# Altium footprint library Transistor.PcbLib: 7 footprints
Each footprint in its own frame and in the unit in brackets; x right, y up, seen from the top. Pads: shape width x height; smd on the part's side, far side on the other; paste and mask are expansions set on the pad; w line width, h text height; cw(c..) or ccw(c..) is an arc to the next point about the centre after c.
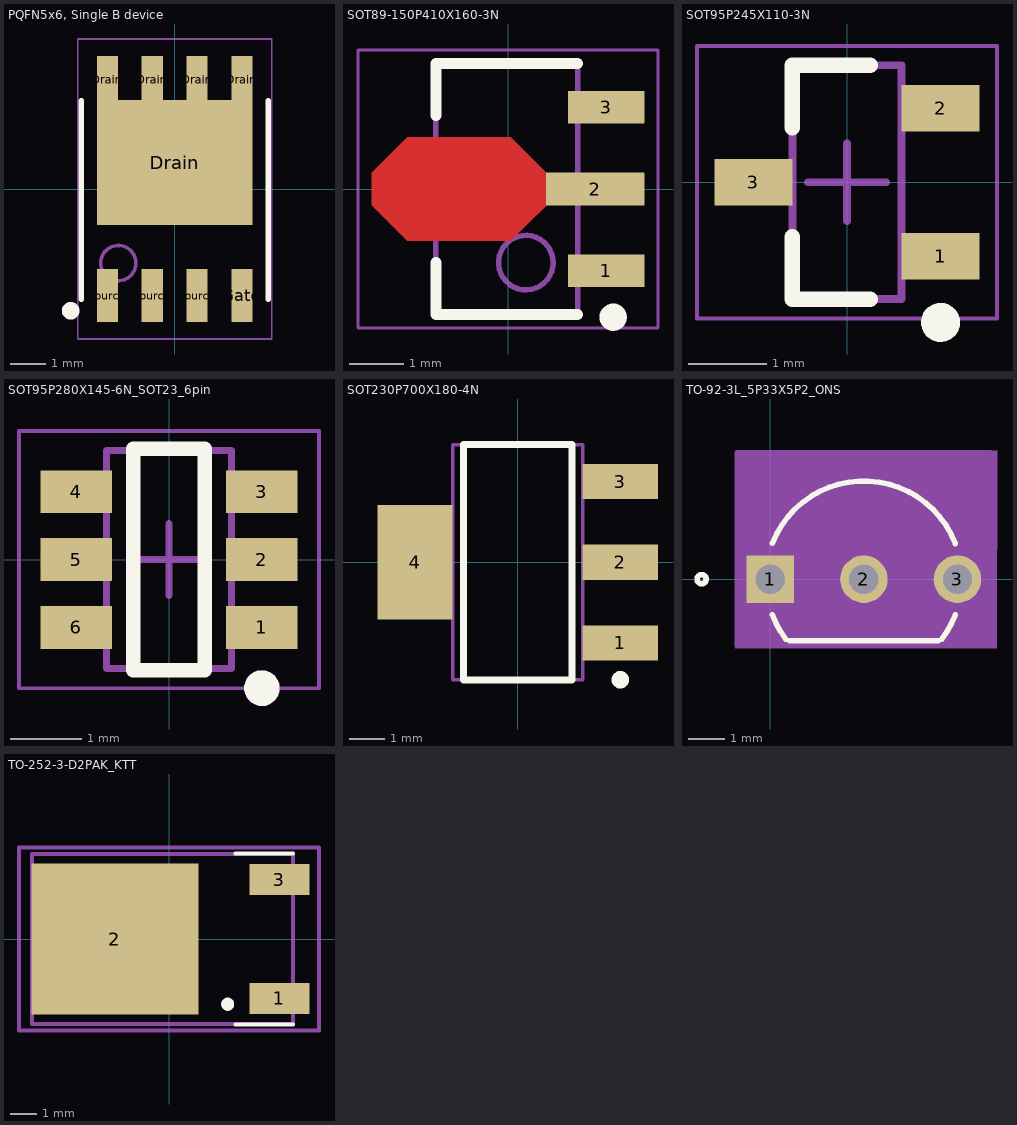
[diagram p0: the footprints below, top view; thin cyan lines are the x and y axes]

## PQFN5x6, Single B device [mm] "PQFN, 8-Leads, Body 6.00x5.00mm, Pitch 1.27mm, Thermal Pad 0.00x2.20mm, IPC Medium Density"
height 0.9
pads (9):
  rect 0.6x1.35 smd: Drain(-1.905,3.095) Drain(-0.635,3.095) Drain(0.635,3.095) Drain(1.905,3.095)
  rect 4.41x3.545 smd: Drain(0,0.75)
  rect 0.6x1.5 smd: Gate(1.905,-3.02) Source(-1.905,-3.02) Source(-0.635,-3.02) Source(0.635,-3.02)
Top Overlay:
  circle w0.25: c-2.95,-3.45 r0.125
  lines w0.152: -2.65,-3.125 -2.65,2.5 ; 2.65,-3.125 2.65,2.5
Mechanical 13:
  circle w0.1: c-1.6,-2.1 r0.5
Mechanical 15:
  lines w0.05: -2.75,-4.25 2.75,-4.25 ; -2.75,4.25 2.75,4.25
  lines w0.051: -2.75,-4.25 -2.75,0 -2.75,4.25 ; 2.75,-4.25 2.75,0 2.75,4.25
  lines w0.1: -0.5,0 0.5,0 ; 0,-0.5 0,0.5
3D body "User Library-PQFN8_5X6.step": height 1, standoff 0, extent -2.55,-3.1 2.55,3.1

## SOT89-150P410X160-3N [mm] "SOT89, 3-Leads, Body 4.50x2.45mm, Pitch 1.50mm, Lead Span 4.1mm, IPC Medium Density"
height 1.6
pads (3):
  rect 1.4x0.6 smd: 1(1.8,-1.5) 3(1.8,1.5)
  rect 1.8x0.6 smd: 2(1.6,0)
Top Layer:
  region: 1,0 0.05,-0.95 -1.85,-0.95 -2.5,-0.3 -2.5,0.3 -1.85,0.95 0.05,0.95
Top Overlay:
  circle w0.25: c1.927,-2.35 r0.125
  lines w0.2: -1.322,-1.35 -1.322,-2.3 1.278,-2.3 ; -1.322,1.35 -1.322,2.3 1.278,2.3
Mechanical 13:
  circle w0.1: c0.327,-1.35 r0.5
  lines w0.1: -1.322,-2.3 -1.322,2.3 1.278,2.3 1.278,-2.3 -1.322,-2.3
Mechanical 15:
  lines w0.05: -2.75,-2.55 -2.75,2.55 2.75,2.55 2.75,-2.55 -2.75,-2.55
  lines w0.1: -0.523,0 0.477,0 ; -0.022,-0.5 -0.022,0.5
3D body "User Library-SOT89(SC-62 TO-243).step": height 1.6, standoff 0, extent -2,-2.3 2.25,2.3

## SOT95P245X110-3N [mm] "SOT23, 3-Leads, Body 2.90x2.45mm, Pitch 0.95mm, IPC Medium Density"
height 1.1
pads (3):
  rect 1x0.6 smd: 1(1.2,-0.95) 2(1.2,0.95) 3(-1.2,0)
Top Overlay:
  circle w0.25: c1.2,-1.8 r0.125
  lines w0.2: -0.7,-0.7 -0.7,-1.5 0.3,-1.5 ; -0.7,0.7 -0.7,1.5 0.3,1.5
Mechanical 13:
  lines w0.1: -0.7,-1.5 0.7,-1.5 0.7,1.5 -0.7,1.5 -0.7,-1.5
Mechanical 15:
  lines w0.05: -1.925,-1.75 1.925,-1.75 1.925,1.75 -1.925,1.75 -1.925,-1.75
  lines w0.1: -0.5,0 0.5,0 ; 0,-0.5 0,0.5
3D body "User Library-sot-3p290x130ll237h100.STEP": height 1, standoff 0, extent -1.185,-1.45 1.185,1.45

## SOT95P280X145-6N_SOT23_6pin [mm] "SOT23, 6-Leads, Body 2.90x2.80mm, Pitch 0.95mm, IPC Medium Density"
height 1.45
pads (6):
  rect 1x0.6 smd: 1(1.3,-0.95) 2(1.3,0) 3(1.3,0.95) 4(-1.3,0.95) 5(-1.3,0) 6(-1.3,-0.95)
Top Overlay:
  circle w0.25: c1.3,-1.8 r0.125
  lines w0.2: -0.5,-1.55 -0.5,1.55 0.5,1.55 0.5,-1.55 -0.5,-1.55
Mechanical 13:
  lines w0.1: -0.875,-1.525 0.875,-1.525 0.875,1.525 -0.875,1.525 -0.875,-1.525
Mechanical 15:
  lines w0.05: -2.1,-1.8 2.1,-1.8 2.1,1.8 -2.1,1.8 -2.1,-1.8
  lines w0.1: -0.5,0 0.5,0 ; 0,-0.5 0,0.5
3D body "sot-23-6.stp": height 1.11, standoff 0, extent -1.422,-1.46 1.422,1.46

## SOT230P700X180-4N [mm] "SOT223, 4-Leads, Body 6.50x7.00mm (avg), Pitch 2.30mm, IPC Medium Density"
height 1.8
pads (4):
  rect 2.15x1 smd: 1(2.925,-2.3) 2(2.925,0) 3(2.925,2.3)
  rect 2.15x3.25 smd: 4(-2.925,0)
Top Overlay:
  circle w0.25: c2.925,-3.35 r0.125
  lines w0.2: -1.55,-3.35 -1.55,3.35 1.55,3.35 1.55,-3.35 -1.55,-3.35
Mechanical 5:
  lines w0.1: -1.85,-3.35 -1.85,3.35 1.85,3.35 1.85,-3.35 -1.85,-3.35
3D body "User Library-sot-223.STEP": height 1.64, standoff -0.04, extent -3.466,-3.25 3.466,3.25

## TO-92-3L_5P33X5P2_ONS [mil]
pads (3):
  rect 52x52 hole 32 mask+0: 1(0,0)
  round 52 hole 32 mask+0: 2(102.36,0) 3(204.72,0)
Top Overlay:
  circle w6: c-75.14,0 r5
  lines w6: 2.23,-39.1 ccw(c102.36,0) 17.16,-65.55 ; 2.23,39.1 cw(c102.36,0) 202.52,39.04 ; 21.12,-67.5 183.6,-67.5 ; 187.57,-65.55 ccw(c102.36,0) 202.52,-39.04
Mechanical 5:
  region: -38.39,140.75 248.03,140.75 248.03,-75.79 -38.39,-75.79
Mechanical 13:
  circle w0: c9.86,0 r5
  lines w0: 21.12,-62.5 cw(c102.36,0) 183.6,-62.5
  lines w1: 21.12,-62.5 183.6,-62.5
  lines w6: -10,0 10,0 ; 0,-10 0,10
Mechanical 15:
  region: 240.72,-72.5 -36,-72.5 -36,138.36 240.72,138.36
  lines w6: -36,-72.5 -36,138.36 240.72,138.36 240.72,-72.5 -36,-72.5
3D body "TO-92-3L_5P33X5P2_ONS.step": height 367.48, standoff -77.52, extent -10.98,-42.52 215.71,102.04

## TO-252-3-D2PAK_KTT [mm]
pads (3):
  rect 2.3x1.2 smd: 1(4.23,-2.28) 3(4.23,2.28)
  rect 6.4x5.8 smd: 2(-2.07,0)
Top Overlay:
  circle w0.254: c2.25,-2.5 r0.124
  lines w0.152: 2.54,-3.277 4.75,-3.277 ; 2.54,3.277 4.75,3.277
Mechanical 13:
  lines w0.152: -5.25,-3.25 4.75,-3.25 4.75,3.25 -5.25,3.25 -5.25,-3.25
Mechanical 15:
  lines w0.152: -0.5,0 0.5,0 ; 0,-0.5 0,0.5 ; -5.75,-3.5 5.75,-3.5 5.75,0 5.75,3.5 -5.75,3.5 -5.75,0 -5.75,-3.5
3D body "User Library-DPAK-1.STEP": height 2.34, standoff -0.07, extent -5.186,-3.279 4.753,3.261